# EAGLE library part ELM320P (library ELM)
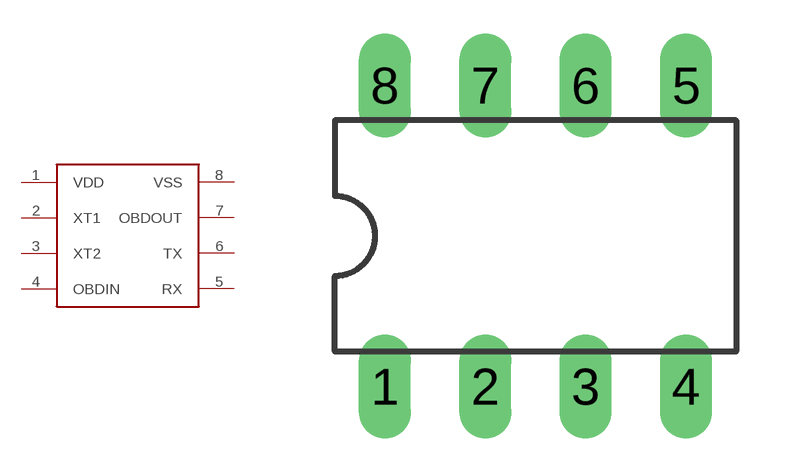
[diagram p4: symbol with the pads of ELM320; footprint ELM320]

Designator prefix -

## ELM320P  [ELM320]
1  VDD  pwr
2  XT1
3  XT2
4  OBDIN
5  RX
6  TX
7  OBDOUT
8  VSS  pwr

## Footprint ELM320 (pad centres in mm)
drill 0.813 long: 1 -5.08,2.54; 2 -2.54,2.54; 3 0,2.54; 4 2.54,2.54; 5 2.54,10.16; 6 0,10.16; 7 -2.54,10.16; 8 -5.08,10.16